# Altium schematic symbol library BTS3800SL.SchLib: 1 symbol
Pins are listed as number, name and electrical type; pins without a type are passive.

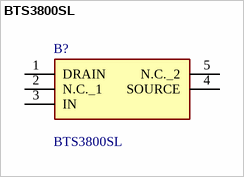
[diagram p0: symbol BTS3800SL]

## BTS3800SL
designator B?
IC: power switch; low-side; 350mA; Channels:1; N-Channel; SMD; Manufacturer_Name: Infineon; Geometry.Height: 1.1mm; Mouser Part Number: 726-BTS3800SL; Mouser Price/Stock: https://www.mouser.co.uk/ProductDetail/Infineon-Technologies/BTS3800SL?qs=UlfnwZ2x8nQzRqUMCLT9CA%3D%3D; Manufacturer_Part_Number: BTS3800SL; Datasheet Link: https://componentsearchengine.com/Datasheets/2/BTS3800SL.pdf
footprint BTS3800SL
pins: 1 DRAIN, 2 N.C._1, 3 IN, 4 SOURCE, 5 N.C._2